# Altium integrated library Micron Memory DDR2 SDRAM.IntLib: 62 symbols (part 12 of 16)
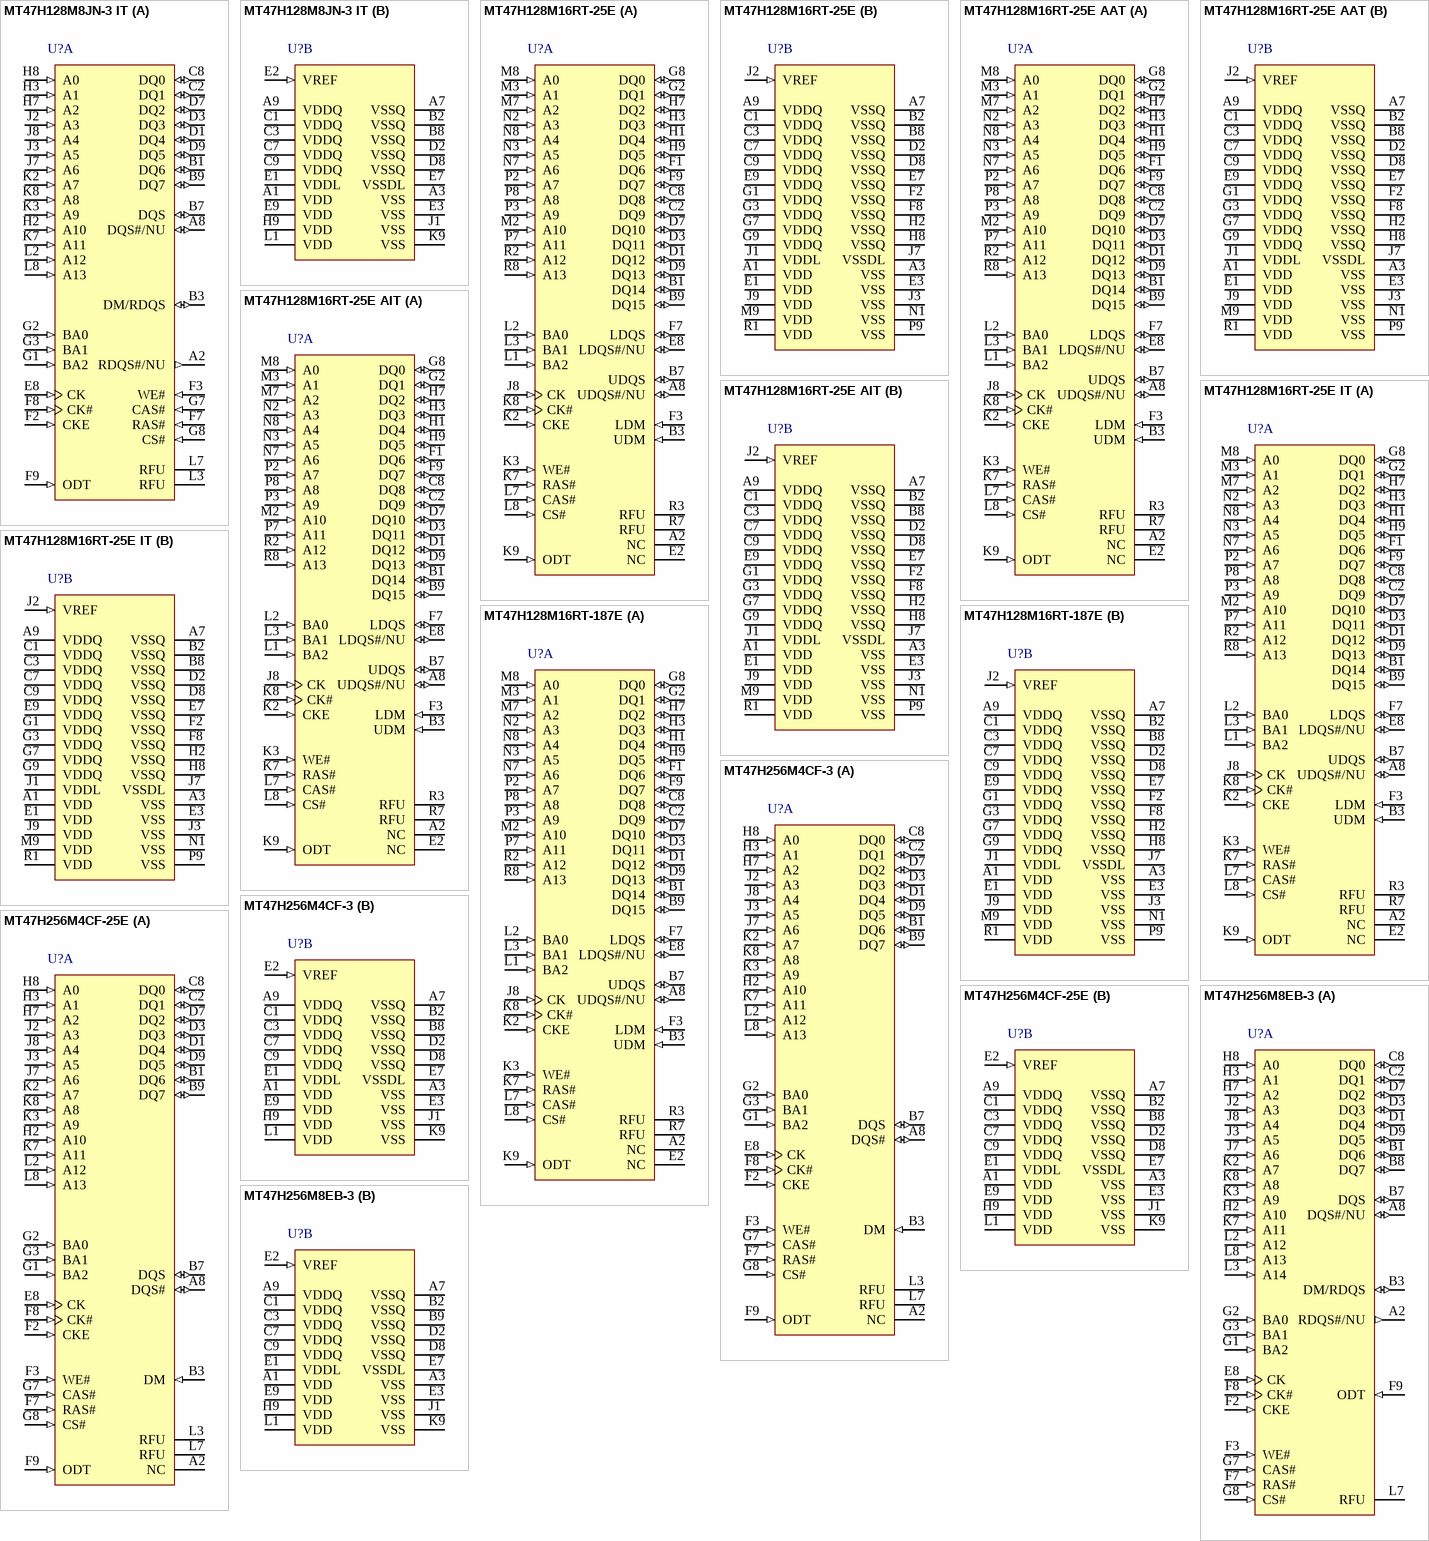
[diagram p18: symbols MT47H128M8JN-3 IT to MT47H256M8EB-3]

## MT47H128M16RT-25E
designator U?
2Gb DDR2-800 SDRAM, 128Mb x 16, 2.5ns, 1.8V, 0 to 85 degC, 84-Ball FBGA, Pb-Free; Manufacturer: Micron; PartNumber: MT47H128M16RT-25E; CL: CL = 5; Clock Rate: 400 MHz; Op. Temp.: 0C to +85C; DatasheetVersion: Rev.H; PackageVersion: Rev.C; PackageReference: MICT-RT-84; PackageDescription: 84-Ball Fine-Pitch Ball Grid Array, 12.5 x 9 mm, Pitch 0.8 mm; Cycle Time: 2.5ns; Data Rate: DDR2-800; Density: 2Gb; Depth: 128Mb; Package: FBGA; Pin Count: 84-ball; RoHS: Yes; Voltage: 1.8V; Width: x16; Mounting Technology: Surface Mount; ComponentLink1Description: Manufacturer URL; ComponentLink1URL: http://www.micron.com/; ComponentLink2Description: Datasheet; ComponentLink2URL: http://www.micron.com/~/media/Documents/Products/Data%20Sheet/DRAM/2Gb_DDR2.pdf; ComponentLink3Description: Package Specification; ComponentLink3URL: http://www.micron.com/~/media/Documents/Products/Data%20Sheet/DRAM/2Gb_DDR2.pdf
footprint MICT-RT-84 (BGA, 84-Balls, Body 12.5x9mm, Pitch 0.8mm)
part A pins: A2 NC "No connect: These balls should be left unconnected.", A8 UDQS#/NU (io) "Data strobe for upper byte: Output with read data, input with write data for source synchronous operation. Edge-aligned with read data, center-aligned with write data. UDQS# is only used when differential data strobe mode is (See Datasheet)", B1 DQ14 (io) "Data input/output: Bidirectional data bus for 128 Meg x 16.", B3 UDM (in) "Input data mask: DM is an input mask signal for write data. Input data is masked when DM is concurrently sampled HIGH during a WRITE access. DM is sampled on both edges of DQS. Although DM balls are input-only, the DM (See Datasheet)", B7 UDQS (io) "Data strobe for upper byte: Output with read data, input with write data for source synchronous operation. Edge-aligned with read data, center-aligned with write data. UDQS# is only used when differential data strobe mode is (See Datasheet)", B9 DQ15 (io) "Data input/output: Bidirectional data bus for 128 Meg x 16.", C2 DQ9 (io) "Data input/output: Bidirectional data bus for 128 Meg x 16.", C8 DQ8 (io) "Data input/output: Bidirectional data bus for 128 Meg x 16.", D1 DQ12 (io) "Data input/output: Bidirectional data bus for 128 Meg x 16.", D3 DQ11 (io) "Data input/output: Bidirectional data bus for 128 Meg x 16.", D7 DQ10 (io) "Data input/output: Bidirectional data bus for 128 Meg x 16.", D9 DQ13 (io) "Data input/output: Bidirectional data bus for 128 Meg x 16.", E2 NC "No connect: These balls should be left unconnected.", E8 LDQS#/NU (io) "Data strobe for lower byte: Output with read data, input with write data for source synchronous operation. Edge-aligned with read data, center-aligned with write data. LDQS# is only used when differential data strobe mode is (See Datasheet)", F1 DQ6 (io) "Data input/output: Bidirectional data bus for 128 Meg x 16.", F3 LDM (in) "Input data mask: DM is an input mask signal for write data. Input data is masked when DM is concurrently sampled HIGH during a WRITE access. DM is sampled on both edges of DQS. Although DM balls are input-only, the DM (See Datasheet)", F7 LDQS (io) "Data strobe for lower byte: Output with read data, input with write data for source synchronous operation. Edge-aligned with read data, center-aligned with write data. LDQS# is only used when differential data strobe mode is (See Datasheet)", F9 DQ7 (io) "Data input/output: Bidirectional data bus for 128 Meg x 16.", G2 DQ1 (io) "Data input/output: Bidirectional data bus for 128 Meg x 16.", G8 DQ0 (io) "Data input/output: Bidirectional data bus for 128 Meg x 16.", H1 DQ4 (io) "Data input/output: Bidirectional data bus for 128 Meg x 16.", H3 DQ3 (io) "Data input/output: Bidirectional data bus for 128 Meg x 16.", H7 DQ2 (io) "Data input/output: Bidirectional data bus for 128 Meg x 16.", H9 DQ5 (io) "Data input/output: Bidirectional data bus for 128 Meg x 16.", J8 CK (in) "Clock: CK and CK# are differential clock inputs. All address and control input signals are sampled on the crossing of the positive edge of CK and negative edge of CK#. Output data (DQ and DQS/DQS#) is referenced to the (See Datasheet)", K2 CKE (in) "Clock enable: CKE (registered HIGH) activates and CKE (registered LOW) deactivates clocking circuitry on the DDR2 SDRAM. The specific circuitry that is enabled/disabled is dependent on the DDR2 SDRAM configuration and (See Datasheet)", K3 WE# (in) "Command inputs: RAS#, CAS#, and WE# (along with CS#) define the command being entered.", K7 RAS# (in) "Command inputs: RAS#, CAS#, and WE# (along with CS#) define the command being entered.", K8 CK# (in) "Clock: CK and CK# are differential clock inputs. All address and control input signals are sampled on the crossing of the positive edge of CK and negative edge of CK#. Output data (DQ and DQS/DQS#) is referenced to the (See Datasheet)", K9 ODT (in) "On-die termination: ODT (registered HIGH) enables termination resistance internal to the DDR2 SDRAM. When enabled, ODT is only applied to each of the following balls: DQ[15:0], LDM, UDM, LDQS, LDQS#, UDQS, and UDQS# for the (See Datasheet)", L1 BA2 (in) "Bank address inputs: BA[2:0] define to which bank an ACTIVE, READ, WRITE, or PRECHARGE command is being applied. BA[2:0] define which mode register, including MR, EMR, EMR(2), and EMR(3), is loaded during the LOAD MODE (See Datasheet)", L2 BA0 (in) "Bank address inputs: BA[2:0] define to which bank an ACTIVE, READ, WRITE, or PRECHARGE command is being applied. BA[2:0] define which mode register, including MR, EMR, EMR(2), and EMR(3), is loaded during the LOAD MODE (See Datasheet)", L3 BA1 (in) "Bank address inputs: BA[2:0] define to which bank an ACTIVE, READ, WRITE, or PRECHARGE command is being applied. BA[2:0] define which mode register, including MR, EMR, EMR(2), and EMR(3), is loaded during the LOAD MODE (See Datasheet)", L7 CAS# (in) "Command inputs: RAS#, CAS#, and WE# (along with CS#) define the command being entered.", L8 CS# (in) "Chip select: CS# enables (registered LOW) and disables (registered HIGH) the command decoder. All commands are masked when CS# is registered high. CS# provides for external bank selection on systems with multiple ranks. CS# (See Datasheet)", M2 A10 (in) "Address inputs: Provide the row address for ACTIVE commands, and the column address and auto precharge bit (A10) for READ/WRITE commands, to select one location out of the memory array in the respective bank. A10 sampled (See Datasheet)", M3 A1 (in) "Address inputs: Provide the row address for ACTIVE commands, and the column address and auto precharge bit (A10) for READ/WRITE commands, to select one location out of the memory array in the respective bank. A10 sampled (See Datasheet)", M7 A2 (in) "Address inputs: Provide the row address for ACTIVE commands, and the column address and auto precharge bit (A10) for READ/WRITE commands, to select one location out of the memory array in the respective bank. A10 sampled (See Datasheet)", M8 A0 (in) "Address inputs: Provide the row address for ACTIVE commands, and the column address and auto precharge bit (A10) for READ/WRITE commands, to select one location out of the memory array in the respective bank. A10 sampled (See Datasheet)", N2 A3 (in) "Address inputs: Provide the row address for ACTIVE commands, and the column address and auto precharge bit (A10) for READ/WRITE commands, to select one location out of the memory array in the respective bank. A10 sampled (See Datasheet)", N3 A5 (in) "Address inputs: Provide the row address for ACTIVE commands, and the column address and auto precharge bit (A10) for READ/WRITE commands, to select one location out of the memory array in the respective bank. A10 sampled (See Datasheet)", N7 A6 (in) "Address inputs: Provide the row address for ACTIVE commands, and the column address and auto precharge bit (A10) for READ/WRITE commands, to select one location out of the memory array in the respective bank. A10 sampled (See Datasheet)", N8 A4 (in) "Address inputs: Provide the row address for ACTIVE commands, and the column address and auto precharge bit (A10) for READ/WRITE commands, to select one location out of the memory array in the respective bank. A10 sampled (See Datasheet)", P2 A7 (in) "Address inputs: Provide the row address for ACTIVE commands, and the column address and auto precharge bit (A10) for READ/WRITE commands, to select one location out of the memory array in the respective bank. A10 sampled (See Datasheet)", P3 A9 (in) "Address inputs: Provide the row address for ACTIVE commands, and the column address and auto precharge bit (A10) for READ/WRITE commands, to select one location out of the memory array in the respective bank. A10 sampled (See Datasheet)", P7 A11 (in) "Address inputs: Provide the row address for ACTIVE commands, and the column address and auto precharge bit (A10) for READ/WRITE commands, to select one location out of the memory array in the respective bank. A10 sampled (See Datasheet)", P8 A8 (in) "Address inputs: Provide the row address for ACTIVE commands, and the column address and auto precharge bit (A10) for READ/WRITE commands, to select one location out of the memory array in the respective bank. A10 sampled (See Datasheet)", R2 A12 (in) "Address inputs: Provide the row address for ACTIVE commands, and the column address and auto precharge bit (A10) for READ/WRITE commands, to select one location out of the memory array in the respective bank. A10 sampled (See Datasheet)", R3 RFU "Reserved for future use: Row address bits A14 (R3), A15 (R7) on the x16, and A15 (L7) on the x4/x8.", R7 RFU "Reserved for future use: Row address bits A14 (R3), A15 (R7) on the x16, and A15 (L7) on the x4/x8.", R8 A13 (in) "Address inputs: Provide the row address for ACTIVE commands, and the column address and auto precharge bit (A10) for READ/WRITE commands, to select one location out of the memory array in the respective bank. A10 sampled (See Datasheet)"
part B pins: A1 VDD (power) "Power supply: 1.8V +/-0.1V.", A3 VSS (power) "Ground.", A7 VSSQ (power) "DQ ground: Isolated on the device for improved noise immunity.", A9 VDDQ (power) "DQ power supply: 1.8V +/-0.1V. Isolated on the device for improved noise immunity.", B2 VSSQ (power) "DQ ground: Isolated on the device for improved noise immunity.", B8 VSSQ (power) "DQ ground: Isolated on the device for improved noise immunity.", C1 VDDQ (power) "DQ power supply: 1.8V +/-0.1V. Isolated on the device for improved noise immunity.", C3 VDDQ (power) "DQ power supply: 1.8V +/-0.1V. Isolated on the device for improved noise immunity.", C7 VDDQ (power) "DQ power supply: 1.8V +/-0.1V. Isolated on the device for improved noise immunity.", C9 VDDQ (power) "DQ power supply: 1.8V +/-0.1V. Isolated on the device for improved noise immunity.", D2 VSSQ (power) "DQ ground: Isolated on the device for improved noise immunity.", D8 VSSQ (power) "DQ ground: Isolated on the device for improved noise immunity.", E1 VDD (power) "Power supply: 1.8V +/-0.1V.", E3 VSS (power) "Ground.", E7 VSSQ (power) "DQ ground: Isolated on the device for improved noise immunity.", E9 VDDQ (power) "DQ power supply: 1.8V +/-0.1V. Isolated on the device for improved noise immunity.", F2 VSSQ (power) "DQ ground: Isolated on the device for improved noise immunity.", F8 VSSQ (power) "DQ ground: Isolated on the device for improved noise immunity.", G1 VDDQ (power) "DQ power supply: 1.8V +/-0.1V. Isolated on the device for improved noise immunity.", G3 VDDQ (power) "DQ power supply: 1.8V +/-0.1V. Isolated on the device for improved noise immunity.", G7 VDDQ (power) "DQ power supply: 1.8V +/-0.1V. Isolated on the device for improved noise immunity.", G9 VDDQ (power) "DQ power supply: 1.8V +/-0.1V. Isolated on the device for improved noise immunity.", H2 VSSQ (power) "DQ ground: Isolated on the device for improved noise immunity.", H8 VSSQ (power) "DQ ground: Isolated on the device for improved noise immunity.", J1 VDDL (power) "DLL power supply: 1.8V +/-0.1V.", J2 VREF (in) "SSTL_18 reference voltage.", J3 VSS (power) "Ground.", J7 VSSDL (power) "DLL ground: Isolated on the device from VSS and VSSQ.", J9 VDD (power) "Power supply: 1.8V +/-0.1V.", M9 VDD (power) "Power supply: 1.8V +/-0.1V.", N1 VSS (power) "Ground.", P9 VSS (power) "Ground.", R1 VDD (power) "Power supply: 1.8V +/-0.1V."

## MT47H128M16RT-25E AAT
designator U?
2Gb DDR2-800 SDRAM, 128Mb x 16, 2.5ns, 1.8V, -40 to 105 degC, 84-Ball FBGA, Pb-Free; Manufacturer: Micron; PartNumber: MT47H128M16RT-25E AAT; CL: CL = 5; Clock Rate: 400 MHz; Op. Temp.: -40C to +105C; DatasheetVersion: Rev.D; PackageVersion: Rev.C; PackageReference: MICT-RT-84; PackageDescription: 84-Ball Fine-Pitch Ball Grid Array, 12.5 x 9 mm, Pitch 0.8 mm; Cycle Time: 2.5ns; Data Rate: DDR2-800; Density: 2Gb; Depth: 128Mb; Package: FBGA; Pin Count: 84-ball; RoHS: Yes; Voltage: 1.8V; Width: x16; Mounting Technology: Surface Mount; ComponentLink1Description: Manufacturer URL; ComponentLink1URL: http://www.micron.com/; ComponentLink2Description: Datasheet; ComponentLink2URL: http://www.micron.com/~/media/Documents/Products/Data%20Sheet/DRAM/2gb_ddr2_ait_aat.pdf; ComponentLink3Description: Package Specification; ComponentLink3URL: http://www.micron.com/~/media/Documents/Products/Data%20Sheet/DRAM/2Gb_DDR2.pdf
footprint MICT-RT-84 (BGA, 84-Balls, Body 12.5x9mm, Pitch 0.8mm)
part A pins: A2 NC "No connect: These balls should be left unconnected.", A8 UDQS#/NU (io) "Data strobe for upper byte: Output with read data, input with write data for source synchronous operation. Edge-aligned with read data, center-aligned with write data. UDQS# is only used when differential data strobe mode is (See Datasheet)", B1 DQ14 (io) "Data input/output: Bidirectional data bus for 128 Meg x 16.", B3 UDM (in) "Input data mask: DM is an input mask signal for write data. Input data is masked when DM is concurrently sampled HIGH during a WRITE access. DM is sampled on both edges of DQS. Although DM balls are input-only, the DM (See Datasheet)", B7 UDQS (io) "Data strobe for upper byte: Output with read data, input with write data for source synchronous operation. Edge-aligned with read data, center-aligned with write data. UDQS# is only used when differential data strobe mode is (See Datasheet)", B9 DQ15 (io) "Data input/output: Bidirectional data bus for 128 Meg x 16.", C2 DQ9 (io) "Data input/output: Bidirectional data bus for 128 Meg x 16.", C8 DQ8 (io) "Data input/output: Bidirectional data bus for 128 Meg x 16.", D1 DQ12 (io) "Data input/output: Bidirectional data bus for 128 Meg x 16.", D3 DQ11 (io) "Data input/output: Bidirectional data bus for 128 Meg x 16.", D7 DQ10 (io) "Data input/output: Bidirectional data bus for 128 Meg x 16.", D9 DQ13 (io) "Data input/output: Bidirectional data bus for 128 Meg x 16.", E2 NC "No connect: These balls should be left unconnected.", E8 LDQS#/NU (io) "Data strobe for lower byte: Output with read data, input with write data for source synchronous operation. Edge-aligned with read data, center-aligned with write data. LDQS# is only used when differential data strobe mode is (See Datasheet)", F1 DQ6 (io) "Data input/output: Bidirectional data bus for 128 Meg x 16.", F3 LDM (in) "Input data mask: DM is an input mask signal for write data. Input data is masked when DM is concurrently sampled HIGH during a WRITE access. DM is sampled on both edges of DQS. Although DM balls are input-only, the DM (See Datasheet)", F7 LDQS (io) "Data strobe for lower byte: Output with read data, input with write data for source synchronous operation. Edge-aligned with read data, center-aligned with write data. LDQS# is only used when differential data strobe mode is (See Datasheet)", F9 DQ7 (io) "Data input/output: Bidirectional data bus for 128 Meg x 16.", G2 DQ1 (io) "Data input/output: Bidirectional data bus for 128 Meg x 16.", G8 DQ0 (io) "Data input/output: Bidirectional data bus for 128 Meg x 16.", H1 DQ4 (io) "Data input/output: Bidirectional data bus for 128 Meg x 16.", H3 DQ3 (io) "Data input/output: Bidirectional data bus for 128 Meg x 16.", H7 DQ2 (io) "Data input/output: Bidirectional data bus for 128 Meg x 16.", H9 DQ5 (io) "Data input/output: Bidirectional data bus for 128 Meg x 16.", J8 CK (in) "Clock: CK and CK# are differential clock inputs. All address and control input signals are sampled on the crossing of the positive edge of CK and negative edge of CK#. Output data (DQ and DQS/DQS#) is referenced to the (See Datasheet)", K2 CKE (in) "Clock enable: CKE (registered HIGH) activates and CKE (registered LOW) deactivates clocking circuitry on the DDR2 SDRAM. The specific circuitry that is enabled/disabled is dependent on the DDR2 SDRAM configuration and (See Datasheet)", K3 WE# (in) "Command inputs: RAS#, CAS#, and WE# (along with CS#) define the command being entered.", K7 RAS# (in) "Command inputs: RAS#, CAS#, and WE# (along with CS#) define the command being entered.", K8 CK# (in) "Clock: CK and CK# are differential clock inputs. All address and control input signals are sampled on the crossing of the positive edge of CK and negative edge of CK#. Output data (DQ and DQS/DQS#) is referenced to the (See Datasheet)", K9 ODT (in) "On-die termination: ODT (registered HIGH) enables termination resistance internal to the DDR2 SDRAM. When enabled, ODT is only applied to each of the following balls: DQ[15:0], LDM, UDM, LDQS, LDQS#, UDQS, and UDQS# for the (See Datasheet)", L1 BA2 (in) "Bank address inputs: BA[2:0] define to which bank an ACTIVE, READ, WRITE, or PRECHARGE command is being applied. BA[2:0] define which mode register, including MR, EMR, EMR(2), and EMR(3), is loaded during the LOAD MODE (See Datasheet)", L2 BA0 (in) "Bank address inputs: BA[2:0] define to which bank an ACTIVE, READ, WRITE, or PRECHARGE command is being applied. BA[2:0] define which mode register, including MR, EMR, EMR(2), and EMR(3), is loaded during the LOAD MODE (See Datasheet)", L3 BA1 (in) "Bank address inputs: BA[2:0] define to which bank an ACTIVE, READ, WRITE, or PRECHARGE command is being applied. BA[2:0] define which mode register, including MR, EMR, EMR(2), and EMR(3), is loaded during the LOAD MODE (See Datasheet)", L7 CAS# (in) "Command inputs: RAS#, CAS#, and WE# (along with CS#) define the command being entered.", L8 CS# (in) "Chip select: CS# enables (registered LOW) and disables (registered HIGH) the command decoder. All commands are masked when CS# is registered high. CS# provides for external bank selection on systems with multiple ranks. CS# (See Datasheet)", M2 A10 (in) "Address inputs: Provide the row address for ACTIVE commands, and the column address and auto precharge bit (A10) for READ/WRITE commands, to select one location out of the memory array in the respective bank. A10 sampled (See Datasheet)", M3 A1 (in) "Address inputs: Provide the row address for ACTIVE commands, and the column address and auto precharge bit (A10) for READ/WRITE commands, to select one location out of the memory array in the respective bank. A10 sampled (See Datasheet)", M7 A2 (in) "Address inputs: Provide the row address for ACTIVE commands, and the column address and auto precharge bit (A10) for READ/WRITE commands, to select one location out of the memory array in the respective bank. A10 sampled (See Datasheet)", M8 A0 (in) "Address inputs: Provide the row address for ACTIVE commands, and the column address and auto precharge bit (A10) for READ/WRITE commands, to select one location out of the memory array in the respective bank. A10 sampled (See Datasheet)", N2 A3 (in) "Address inputs: Provide the row address for ACTIVE commands, and the column address and auto precharge bit (A10) for READ/WRITE commands, to select one location out of the memory array in the respective bank. A10 sampled (See Datasheet)", N3 A5 (in) "Address inputs: Provide the row address for ACTIVE commands, and the column address and auto precharge bit (A10) for READ/WRITE commands, to select one location out of the memory array in the respective bank. A10 sampled (See Datasheet)", N7 A6 (in) "Address inputs: Provide the row address for ACTIVE commands, and the column address and auto precharge bit (A10) for READ/WRITE commands, to select one location out of the memory array in the respective bank. A10 sampled (See Datasheet)", N8 A4 (in) "Address inputs: Provide the row address for ACTIVE commands, and the column address and auto precharge bit (A10) for READ/WRITE commands, to select one location out of the memory array in the respective bank. A10 sampled (See Datasheet)", P2 A7 (in) "Address inputs: Provide the row address for ACTIVE commands, and the column address and auto precharge bit (A10) for READ/WRITE commands, to select one location out of the memory array in the respective bank. A10 sampled (See Datasheet)", P3 A9 (in) "Address inputs: Provide the row address for ACTIVE commands, and the column address and auto precharge bit (A10) for READ/WRITE commands, to select one location out of the memory array in the respective bank. A10 sampled (See Datasheet)", P7 A11 (in) "Address inputs: Provide the row address for ACTIVE commands, and the column address and auto precharge bit (A10) for READ/WRITE commands, to select one location out of the memory array in the respective bank. A10 sampled (See Datasheet)", P8 A8 (in) "Address inputs: Provide the row address for ACTIVE commands, and the column address and auto precharge bit (A10) for READ/WRITE commands, to select one location out of the memory array in the respective bank. A10 sampled (See Datasheet)", R2 A12 (in) "Address inputs: Provide the row address for ACTIVE commands, and the column address and auto precharge bit (A10) for READ/WRITE commands, to select one location out of the memory array in the respective bank. A10 sampled (See Datasheet)", R3 RFU "Reserved for future use: Row address bits A14 (R3), A15 (R7) on the x16, and A15 (L7) on the x4/x8.", R7 RFU "Reserved for future use: Row address bits A14 (R3), A15 (R7) on the x16, and A15 (L7) on the x4/x8.", R8 A13 (in) "Address inputs: Provide the row address for ACTIVE commands, and the column address and auto precharge bit (A10) for READ/WRITE commands, to select one location out of the memory array in the respective bank. A10 sampled (See Datasheet)"
part B pins: A1 VDD (power) "Power supply: 1.8V +/-0.1V.", A3 VSS (power) "Ground.", A7 VSSQ (power) "DQ ground: Isolated on the device for improved noise immunity.", A9 VDDQ (power) "DQ power supply: 1.8V +/-0.1V. Isolated on the device for improved noise immunity.", B2 VSSQ (power) "DQ ground: Isolated on the device for improved noise immunity.", B8 VSSQ (power) "DQ ground: Isolated on the device for improved noise immunity.", C1 VDDQ (power) "DQ power supply: 1.8V +/-0.1V. Isolated on the device for improved noise immunity.", C3 VDDQ (power) "DQ power supply: 1.8V +/-0.1V. Isolated on the device for improved noise immunity.", C7 VDDQ (power) "DQ power supply: 1.8V +/-0.1V. Isolated on the device for improved noise immunity.", C9 VDDQ (power) "DQ power supply: 1.8V +/-0.1V. Isolated on the device for improved noise immunity.", D2 VSSQ (power) "DQ ground: Isolated on the device for improved noise immunity.", D8 VSSQ (power) "DQ ground: Isolated on the device for improved noise immunity.", E1 VDD (power) "Power supply: 1.8V +/-0.1V.", E3 VSS (power) "Ground.", E7 VSSQ (power) "DQ ground: Isolated on the device for improved noise immunity.", E9 VDDQ (power) "DQ power supply: 1.8V +/-0.1V. Isolated on the device for improved noise immunity.", F2 VSSQ (power) "DQ ground: Isolated on the device for improved noise immunity.", F8 VSSQ (power) "DQ ground: Isolated on the device for improved noise immunity.", G1 VDDQ (power) "DQ power supply: 1.8V +/-0.1V. Isolated on the device for improved noise immunity.", G3 VDDQ (power) "DQ power supply: 1.8V +/-0.1V. Isolated on the device for improved noise immunity.", G7 VDDQ (power) "DQ power supply: 1.8V +/-0.1V. Isolated on the device for improved noise immunity.", G9 VDDQ (power) "DQ power supply: 1.8V +/-0.1V. Isolated on the device for improved noise immunity.", H2 VSSQ (power) "DQ ground: Isolated on the device for improved noise immunity.", H8 VSSQ (power) "DQ ground: Isolated on the device for improved noise immunity.", J1 VDDL (power) "DLL power supply: 1.8V +/-0.1V.", J2 VREF (in) "SSTL_18 reference voltage.", J3 VSS (power) "Ground.", J7 VSSDL (power) "DLL ground: Isolated on the device from VSS and VSSQ.", J9 VDD (power) "Power supply: 1.8V +/-0.1V.", M9 VDD (power) "Power supply: 1.8V +/-0.1V.", N1 VSS (power) "Ground.", P9 VSS (power) "Ground.", R1 VDD (power) "Power supply: 1.8V +/-0.1V."

## MT47H128M16RT-25E AIT
designator U?
2Gb DDR2-800 SDRAM, 128Mb x 16, 2.5ns, 1.8V, -40 to 95 degC, 84-Ball FBGA, Pb-Free; Manufacturer: Micron; PartNumber: MT47H128M16RT-25E AIT; CL: CL = 5; Clock Rate: 400 MHz; Op. Temp.: -40C to +95C; DatasheetVersion: Rev.D; PackageVersion: Rev.C; PackageReference: MICT-RT-84; PackageDescription: 84-Ball Fine-Pitch Ball Grid Array, 12.5 x 9 mm, Pitch 0.8 mm; Cycle Time: 2.5ns; Data Rate: DDR2-800; Density: 2Gb; Depth: 128Mb; Package: FBGA; Pin Count: 84-ball; RoHS: Yes; Voltage: 1.8V; Width: x16; Mounting Technology: Surface Mount; ComponentLink1Description: Manufacturer URL; ComponentLink1URL: http://www.micron.com/; ComponentLink2Description: Datasheet; ComponentLink2URL: http://www.micron.com/~/media/Documents/Products/Data%20Sheet/DRAM/2gb_ddr2_ait_aat.pdf; ComponentLink3Description: Package Specification; ComponentLink3URL: http://www.micron.com/~/media/Documents/Products/Data%20Sheet/DRAM/2Gb_DDR2.pdf
footprint MICT-RT-84 (BGA, 84-Balls, Body 12.5x9mm, Pitch 0.8mm)
part A pins: A2 NC "No connect: These balls should be left unconnected.", A8 UDQS#/NU (io) "Data strobe for upper byte: Output with read data, input with write data for source synchronous operation. Edge-aligned with read data, center-aligned with write data. UDQS# is only used when differential data strobe mode is (See Datasheet)", B1 DQ14 (io) "Data input/output: Bidirectional data bus for 128 Meg x 16.", B3 UDM (in) "Input data mask: DM is an input mask signal for write data. Input data is masked when DM is concurrently sampled HIGH during a WRITE access. DM is sampled on both edges of DQS. Although DM balls are input-only, the DM (See Datasheet)", B7 UDQS (io) "Data strobe for upper byte: Output with read data, input with write data for source synchronous operation. Edge-aligned with read data, center-aligned with write data. UDQS# is only used when differential data strobe mode is (See Datasheet)", B9 DQ15 (io) "Data input/output: Bidirectional data bus for 128 Meg x 16.", C2 DQ9 (io) "Data input/output: Bidirectional data bus for 128 Meg x 16.", C8 DQ8 (io) "Data input/output: Bidirectional data bus for 128 Meg x 16.", D1 DQ12 (io) "Data input/output: Bidirectional data bus for 128 Meg x 16.", D3 DQ11 (io) "Data input/output: Bidirectional data bus for 128 Meg x 16.", D7 DQ10 (io) "Data input/output: Bidirectional data bus for 128 Meg x 16.", D9 DQ13 (io) "Data input/output: Bidirectional data bus for 128 Meg x 16.", E2 NC "No connect: These balls should be left unconnected.", E8 LDQS#/NU (io) "Data strobe for lower byte: Output with read data, input with write data for source synchronous operation. Edge-aligned with read data, center-aligned with write data. LDQS# is only used when differential data strobe mode is (See Datasheet)", F1 DQ6 (io) "Data input/output: Bidirectional data bus for 128 Meg x 16.", F3 LDM (in) "Input data mask: DM is an input mask signal for write data. Input data is masked when DM is concurrently sampled HIGH during a WRITE access. DM is sampled on both edges of DQS. Although DM balls are input-only, the DM (See Datasheet)", F7 LDQS (io) "Data strobe for lower byte: Output with read data, input with write data for source synchronous operation. Edge-aligned with read data, center-aligned with write data. LDQS# is only used when differential data strobe mode is (See Datasheet)", F9 DQ7 (io) "Data input/output: Bidirectional data bus for 128 Meg x 16.", G2 DQ1 (io) "Data input/output: Bidirectional data bus for 128 Meg x 16.", G8 DQ0 (io) "Data input/output: Bidirectional data bus for 128 Meg x 16.", H1 DQ4 (io) "Data input/output: Bidirectional data bus for 128 Meg x 16.", H3 DQ3 (io) "Data input/output: Bidirectional data bus for 128 Meg x 16.", H7 DQ2 (io) "Data input/output: Bidirectional data bus for 128 Meg x 16.", H9 DQ5 (io) "Data input/output: Bidirectional data bus for 128 Meg x 16.", J8 CK (in) "Clock: CK and CK# are differential clock inputs. All address and control input signals are sampled on the crossing of the positive edge of CK and negative edge of CK#. Output data (DQ and DQS/DQS#) is referenced to the (See Datasheet)", K2 CKE (in) "Clock enable: CKE (registered HIGH) activates and CKE (registered LOW) deactivates clocking circuitry on the DDR2 SDRAM. The specific circuitry that is enabled/disabled is dependent on the DDR2 SDRAM configuration and (See Datasheet)", K3 WE# (in) "Command inputs: RAS#, CAS#, and WE# (along with CS#) define the command being entered.", K7 RAS# (in) "Command inputs: RAS#, CAS#, and WE# (along with CS#) define the command being entered.", K8 CK# (in) "Clock: CK and CK# are differential clock inputs. All address and control input signals are sampled on the crossing of the positive edge of CK and negative edge of CK#. Output data (DQ and DQS/DQS#) is referenced to the (See Datasheet)", K9 ODT (in) "On-die termination: ODT (registered HIGH) enables termination resistance internal to the DDR2 SDRAM. When enabled, ODT is only applied to each of the following balls: DQ[15:0], LDM, UDM, LDQS, LDQS#, UDQS, and UDQS# for the (See Datasheet)", L1 BA2 (in) "Bank address inputs: BA[2:0] define to which bank an ACTIVE, READ, WRITE, or PRECHARGE command is being applied. BA[2:0] define which mode register, including MR, EMR, EMR(2), and EMR(3), is loaded during the LOAD MODE (See Datasheet)", L2 BA0 (in) "Bank address inputs: BA[2:0] define to which bank an ACTIVE, READ, WRITE, or PRECHARGE command is being applied. BA[2:0] define which mode register, including MR, EMR, EMR(2), and EMR(3), is loaded during the LOAD MODE (See Datasheet)", L3 BA1 (in) "Bank address inputs: BA[2:0] define to which bank an ACTIVE, READ, WRITE, or PRECHARGE command is being applied. BA[2:0] define which mode register, including MR, EMR, EMR(2), and EMR(3), is loaded during the LOAD MODE (See Datasheet)", L7 CAS# (in) "Command inputs: RAS#, CAS#, and WE# (along with CS#) define the command being entered.", L8 CS# (in) "Chip select: CS# enables (registered LOW) and disables (registered HIGH) the command decoder. All commands are masked when CS# is registered high. CS# provides for external bank selection on systems with multiple ranks. CS# (See Datasheet)", M2 A10 (in) "Address inputs: Provide the row address for ACTIVE commands, and the column address and auto precharge bit (A10) for READ/WRITE commands, to select one location out of the memory array in the respective bank. A10 sampled (See Datasheet)", M3 A1 (in) "Address inputs: Provide the row address for ACTIVE commands, and the column address and auto precharge bit (A10) for READ/WRITE commands, to select one location out of the memory array in the respective bank. A10 sampled (See Datasheet)", M7 A2 (in) "Address inputs: Provide the row address for ACTIVE commands, and the column address and auto precharge bit (A10) for READ/WRITE commands, to select one location out of the memory array in the respective bank. A10 sampled (See Datasheet)", M8 A0 (in) "Address inputs: Provide the row address for ACTIVE commands, and the column address and auto precharge bit (A10) for READ/WRITE commands, to select one location out of the memory array in the respective bank. A10 sampled (See Datasheet)", N2 A3 (in) "Address inputs: Provide the row address for ACTIVE commands, and the column address and auto precharge bit (A10) for READ/WRITE commands, to select one location out of the memory array in the respective bank. A10 sampled (See Datasheet)", N3 A5 (in) "Address inputs: Provide the row address for ACTIVE commands, and the column address and auto precharge bit (A10) for READ/WRITE commands, to select one location out of the memory array in the respective bank. A10 sampled (See Datasheet)", N7 A6 (in) "Address inputs: Provide the row address for ACTIVE commands, and the column address and auto precharge bit (A10) for READ/WRITE commands, to select one location out of the memory array in the respective bank. A10 sampled (See Datasheet)", N8 A4 (in) "Address inputs: Provide the row address for ACTIVE commands, and the column address and auto precharge bit (A10) for READ/WRITE commands, to select one location out of the memory array in the respective bank. A10 sampled (See Datasheet)", P2 A7 (in) "Address inputs: Provide the row address for ACTIVE commands, and the column address and auto precharge bit (A10) for READ/WRITE commands, to select one location out of the memory array in the respective bank. A10 sampled (See Datasheet)", P3 A9 (in) "Address inputs: Provide the row address for ACTIVE commands, and the column address and auto precharge bit (A10) for READ/WRITE commands, to select one location out of the memory array in the respective bank. A10 sampled (See Datasheet)", P7 A11 (in) "Address inputs: Provide the row address for ACTIVE commands, and the column address and auto precharge bit (A10) for READ/WRITE commands, to select one location out of the memory array in the respective bank. A10 sampled (See Datasheet)", P8 A8 (in) "Address inputs: Provide the row address for ACTIVE commands, and the column address and auto precharge bit (A10) for READ/WRITE commands, to select one location out of the memory array in the respective bank. A10 sampled (See Datasheet)", R2 A12 (in) "Address inputs: Provide the row address for ACTIVE commands, and the column address and auto precharge bit (A10) for READ/WRITE commands, to select one location out of the memory array in the respective bank. A10 sampled (See Datasheet)", R3 RFU "Reserved for future use: Row address bits A14 (R3), A15 (R7) on the x16, and A15 (L7) on the x4/x8.", R7 RFU "Reserved for future use: Row address bits A14 (R3), A15 (R7) on the x16, and A15 (L7) on the x4/x8.", R8 A13 (in) "Address inputs: Provide the row address for ACTIVE commands, and the column address and auto precharge bit (A10) for READ/WRITE commands, to select one location out of the memory array in the respective bank. A10 sampled (See Datasheet)"
part B pins: A1 VDD (power) "Power supply: 1.8V +/-0.1V.", A3 VSS (power) "Ground.", A7 VSSQ (power) "DQ ground: Isolated on the device for improved noise immunity.", A9 VDDQ (power) "DQ power supply: 1.8V +/-0.1V. Isolated on the device for improved noise immunity.", B2 VSSQ (power) "DQ ground: Isolated on the device for improved noise immunity.", B8 VSSQ (power) "DQ ground: Isolated on the device for improved noise immunity.", C1 VDDQ (power) "DQ power supply: 1.8V +/-0.1V. Isolated on the device for improved noise immunity.", C3 VDDQ (power) "DQ power supply: 1.8V +/-0.1V. Isolated on the device for improved noise immunity.", C7 VDDQ (power) "DQ power supply: 1.8V +/-0.1V. Isolated on the device for improved noise immunity.", C9 VDDQ (power) "DQ power supply: 1.8V +/-0.1V. Isolated on the device for improved noise immunity.", D2 VSSQ (power) "DQ ground: Isolated on the device for improved noise immunity.", D8 VSSQ (power) "DQ ground: Isolated on the device for improved noise immunity.", E1 VDD (power) "Power supply: 1.8V +/-0.1V.", E3 VSS (power) "Ground.", E7 VSSQ (power) "DQ ground: Isolated on the device for improved noise immunity.", E9 VDDQ (power) "DQ power supply: 1.8V +/-0.1V. Isolated on the device for improved noise immunity.", F2 VSSQ (power) "DQ ground: Isolated on the device for improved noise immunity.", F8 VSSQ (power) "DQ ground: Isolated on the device for improved noise immunity.", G1 VDDQ (power) "DQ power supply: 1.8V +/-0.1V. Isolated on the device for improved noise immunity.", G3 VDDQ (power) "DQ power supply: 1.8V +/-0.1V. Isolated on the device for improved noise immunity.", G7 VDDQ (power) "DQ power supply: 1.8V +/-0.1V. Isolated on the device for improved noise immunity.", G9 VDDQ (power) "DQ power supply: 1.8V +/-0.1V. Isolated on the device for improved noise immunity.", H2 VSSQ (power) "DQ ground: Isolated on the device for improved noise immunity.", H8 VSSQ (power) "DQ ground: Isolated on the device for improved noise immunity.", J1 VDDL (power) "DLL power supply: 1.8V +/-0.1V.", J2 VREF (in) "SSTL_18 reference voltage.", J3 VSS (power) "Ground.", J7 VSSDL (power) "DLL ground: Isolated on the device from VSS and VSSQ.", J9 VDD (power) "Power supply: 1.8V +/-0.1V.", M9 VDD (power) "Power supply: 1.8V +/-0.1V.", N1 VSS (power) "Ground.", P9 VSS (power) "Ground.", R1 VDD (power) "Power supply: 1.8V +/-0.1V."

## MT47H128M16RT-25E IT
designator U?
2Gb DDR2-800 SDRAM, 128Mb x 16, 2.5ns, 1.8V, -40 to 95 degC, 84-Ball FBGA, Pb-Free; Manufacturer: Micron; PartNumber: MT47H128M16RT-25E IT; CL: CL = 5; Clock Rate: 400 MHz; Op. Temp.: -40C to +95C; DatasheetVersion: Rev.H; PackageVersion: Rev.C; PackageReference: MICT-RT-84; PackageDescription: 84-Ball Fine-Pitch Ball Grid Array, 12.5 x 9 mm, Pitch 0.8 mm; Cycle Time: 2.5ns; Data Rate: DDR2-800; Density: 2Gb; Depth: 128Mb; Package: FBGA; Pin Count: 84-ball; RoHS: Yes; Voltage: 1.8V; Width: x16; Mounting Technology: Surface Mount; ComponentLink1Description: Manufacturer URL; ComponentLink1URL: http://www.micron.com/; ComponentLink2Description: Datasheet; ComponentLink2URL: http://www.micron.com/~/media/Documents/Products/Data%20Sheet/DRAM/2Gb_DDR2.pdf; ComponentLink3Description: Package Specification; ComponentLink3URL: http://www.micron.com/~/media/Documents/Products/Data%20Sheet/DRAM/2Gb_DDR2.pdf
footprint MICT-RT-84 (BGA, 84-Balls, Body 12.5x9mm, Pitch 0.8mm)
part A pins: A2 NC "No connect: These balls should be left unconnected.", A8 UDQS#/NU (io) "Data strobe for upper byte: Output with read data, input with write data for source synchronous operation. Edge-aligned with read data, center-aligned with write data. UDQS# is only used when differential data strobe mode is (See Datasheet)", B1 DQ14 (io) "Data input/output: Bidirectional data bus for 128 Meg x 16.", B3 UDM (in) "Input data mask: DM is an input mask signal for write data. Input data is masked when DM is concurrently sampled HIGH during a WRITE access. DM is sampled on both edges of DQS. Although DM balls are input-only, the DM (See Datasheet)", B7 UDQS (io) "Data strobe for upper byte: Output with read data, input with write data for source synchronous operation. Edge-aligned with read data, center-aligned with write data. UDQS# is only used when differential data strobe mode is (See Datasheet)", B9 DQ15 (io) "Data input/output: Bidirectional data bus for 128 Meg x 16.", C2 DQ9 (io) "Data input/output: Bidirectional data bus for 128 Meg x 16.", C8 DQ8 (io) "Data input/output: Bidirectional data bus for 128 Meg x 16.", D1 DQ12 (io) "Data input/output: Bidirectional data bus for 128 Meg x 16.", D3 DQ11 (io) "Data input/output: Bidirectional data bus for 128 Meg x 16.", D7 DQ10 (io) "Data input/output: Bidirectional data bus for 128 Meg x 16.", D9 DQ13 (io) "Data input/output: Bidirectional data bus for 128 Meg x 16.", E2 NC "No connect: These balls should be left unconnected.", E8 LDQS#/NU (io) "Data strobe for lower byte: Output with read data, input with write data for source synchronous operation. Edge-aligned with read data, center-aligned with write data. LDQS# is only used when differential data strobe mode is (See Datasheet)", F1 DQ6 (io) "Data input/output: Bidirectional data bus for 128 Meg x 16.", F3 LDM (in) "Input data mask: DM is an input mask signal for write data. Input data is masked when DM is concurrently sampled HIGH during a WRITE access. DM is sampled on both edges of DQS. Although DM balls are input-only, the DM (See Datasheet)", F7 LDQS (io) "Data strobe for lower byte: Output with read data, input with write data for source synchronous operation. Edge-aligned with read data, center-aligned with write data. LDQS# is only used when differential data strobe mode is (See Datasheet)", F9 DQ7 (io) "Data input/output: Bidirectional data bus for 128 Meg x 16.", G2 DQ1 (io) "Data input/output: Bidirectional data bus for 128 Meg x 16.", G8 DQ0 (io) "Data input/output: Bidirectional data bus for 128 Meg x 16.", H1 DQ4 (io) "Data input/output: Bidirectional data bus for 128 Meg x 16.", H3 DQ3 (io) "Data input/output: Bidirectional data bus for 128 Meg x 16.", H7 DQ2 (io) "Data input/output: Bidirectional data bus for 128 Meg x 16.", H9 DQ5 (io) "Data input/output: Bidirectional data bus for 128 Meg x 16.", J8 CK (in) "Clock: CK and CK# are differential clock inputs. All address and control input signals are sampled on the crossing of the positive edge of CK and negative edge of CK#. Output data (DQ and DQS/DQS#) is referenced to the (See Datasheet)", K2 CKE (in) "Clock enable: CKE (registered HIGH) activates and CKE (registered LOW) deactivates clocking circuitry on the DDR2 SDRAM. The specific circuitry that is enabled/disabled is dependent on the DDR2 SDRAM configuration and (See Datasheet)", K3 WE# (in) "Command inputs: RAS#, CAS#, and WE# (along with CS#) define the command being entered.", K7 RAS# (in) "Command inputs: RAS#, CAS#, and WE# (along with CS#) define the command being entered.", K8 CK# (in) "Clock: CK and CK# are differential clock inputs. All address and control input signals are sampled on the crossing of the positive edge of CK and negative edge of CK#. Output data (DQ and DQS/DQS#) is referenced to the (See Datasheet)", K9 ODT (in) "On-die termination: ODT (registered HIGH) enables termination resistance internal to the DDR2 SDRAM. When enabled, ODT is only applied to each of the following balls: DQ[15:0], LDM, UDM, LDQS, LDQS#, UDQS, and UDQS# for the (See Datasheet)", L1 BA2 (in) "Bank address inputs: BA[2:0] define to which bank an ACTIVE, READ, WRITE, or PRECHARGE command is being applied. BA[2:0] define which mode register, including MR, EMR, EMR(2), and EMR(3), is loaded during the LOAD MODE (See Datasheet)", L2 BA0 (in) "Bank address inputs: BA[2:0] define to which bank an ACTIVE, READ, WRITE, or PRECHARGE command is being applied. BA[2:0] define which mode register, including MR, EMR, EMR(2), and EMR(3), is loaded during the LOAD MODE (See Datasheet)", L3 BA1 (in) "Bank address inputs: BA[2:0] define to which bank an ACTIVE, READ, WRITE, or PRECHARGE command is being applied. BA[2:0] define which mode register, including MR, EMR, EMR(2), and EMR(3), is loaded during the LOAD MODE (See Datasheet)", L7 CAS# (in) "Command inputs: RAS#, CAS#, and WE# (along with CS#) define the command being entered.", L8 CS# (in) "Chip select: CS# enables (registered LOW) and disables (registered HIGH) the command decoder. All commands are masked when CS# is registered high. CS# provides for external bank selection on systems with multiple ranks. CS# (See Datasheet)", M2 A10 (in) "Address inputs: Provide the row address for ACTIVE commands, and the column address and auto precharge bit (A10) for READ/WRITE commands, to select one location out of the memory array in the respective bank. A10 sampled (See Datasheet)", M3 A1 (in) "Address inputs: Provide the row address for ACTIVE commands, and the column address and auto precharge bit (A10) for READ/WRITE commands, to select one location out of the memory array in the respective bank. A10 sampled (See Datasheet)", M7 A2 (in) "Address inputs: Provide the row address for ACTIVE commands, and the column address and auto precharge bit (A10) for READ/WRITE commands, to select one location out of the memory array in the respective bank. A10 sampled (See Datasheet)", M8 A0 (in) "Address inputs: Provide the row address for ACTIVE commands, and the column address and auto precharge bit (A10) for READ/WRITE commands, to select one location out of the memory array in the respective bank. A10 sampled (See Datasheet)", N2 A3 (in) "Address inputs: Provide the row address for ACTIVE commands, and the column address and auto precharge bit (A10) for READ/WRITE commands, to select one location out of the memory array in the respective bank. A10 sampled (See Datasheet)", N3 A5 (in) "Address inputs: Provide the row address for ACTIVE commands, and the column address and auto precharge bit (A10) for READ/WRITE commands, to select one location out of the memory array in the respective bank. A10 sampled (See Datasheet)", N7 A6 (in) "Address inputs: Provide the row address for ACTIVE commands, and the column address and auto precharge bit (A10) for READ/WRITE commands, to select one location out of the memory array in the respective bank. A10 sampled (See Datasheet)", N8 A4 (in) "Address inputs: Provide the row address for ACTIVE commands, and the column address and auto precharge bit (A10) for READ/WRITE commands, to select one location out of the memory array in the respective bank. A10 sampled (See Datasheet)", P2 A7 (in) "Address inputs: Provide the row address for ACTIVE commands, and the column address and auto precharge bit (A10) for READ/WRITE commands, to select one location out of the memory array in the respective bank. A10 sampled (See Datasheet)", P3 A9 (in) "Address inputs: Provide the row address for ACTIVE commands, and the column address and auto precharge bit (A10) for READ/WRITE commands, to select one location out of the memory array in the respective bank. A10 sampled (See Datasheet)", P7 A11 (in) "Address inputs: Provide the row address for ACTIVE commands, and the column address and auto precharge bit (A10) for READ/WRITE commands, to select one location out of the memory array in the respective bank. A10 sampled (See Datasheet)", P8 A8 (in) "Address inputs: Provide the row address for ACTIVE commands, and the column address and auto precharge bit (A10) for READ/WRITE commands, to select one location out of the memory array in the respective bank. A10 sampled (See Datasheet)", R2 A12 (in) "Address inputs: Provide the row address for ACTIVE commands, and the column address and auto precharge bit (A10) for READ/WRITE commands, to select one location out of the memory array in the respective bank. A10 sampled (See Datasheet)", R3 RFU "Reserved for future use: Row address bits A14 (R3), A15 (R7) on the x16, and A15 (L7) on the x4/x8.", R7 RFU "Reserved for future use: Row address bits A14 (R3), A15 (R7) on the x16, and A15 (L7) on the x4/x8.", R8 A13 (in) "Address inputs: Provide the row address for ACTIVE commands, and the column address and auto precharge bit (A10) for READ/WRITE commands, to select one location out of the memory array in the respective bank. A10 sampled (See Datasheet)"
part B pins: A1 VDD (power) "Power supply: 1.8V +/-0.1V.", A3 VSS (power) "Ground.", A7 VSSQ (power) "DQ ground: Isolated on the device for improved noise immunity.", A9 VDDQ (power) "DQ power supply: 1.8V +/-0.1V. Isolated on the device for improved noise immunity.", B2 VSSQ (power) "DQ ground: Isolated on the device for improved noise immunity.", B8 VSSQ (power) "DQ ground: Isolated on the device for improved noise immunity.", C1 VDDQ (power) "DQ power supply: 1.8V +/-0.1V. Isolated on the device for improved noise immunity.", C3 VDDQ (power) "DQ power supply: 1.8V +/-0.1V. Isolated on the device for improved noise immunity.", C7 VDDQ (power) "DQ power supply: 1.8V +/-0.1V. Isolated on the device for improved noise immunity.", C9 VDDQ (power) "DQ power supply: 1.8V +/-0.1V. Isolated on the device for improved noise immunity.", D2 VSSQ (power) "DQ ground: Isolated on the device for improved noise immunity.", D8 VSSQ (power) "DQ ground: Isolated on the device for improved noise immunity.", E1 VDD (power) "Power supply: 1.8V +/-0.1V.", E3 VSS (power) "Ground.", E7 VSSQ (power) "DQ ground: Isolated on the device for improved noise immunity.", E9 VDDQ (power) "DQ power supply: 1.8V +/-0.1V. Isolated on the device for improved noise immunity.", F2 VSSQ (power) "DQ ground: Isolated on the device for improved noise immunity.", F8 VSSQ (power) "DQ ground: Isolated on the device for improved noise immunity.", G1 VDDQ (power) "DQ power supply: 1.8V +/-0.1V. Isolated on the device for improved noise immunity.", G3 VDDQ (power) "DQ power supply: 1.8V +/-0.1V. Isolated on the device for improved noise immunity.", G7 VDDQ (power) "DQ power supply: 1.8V +/-0.1V. Isolated on the device for improved noise immunity.", G9 VDDQ (power) "DQ power supply: 1.8V +/-0.1V. Isolated on the device for improved noise immunity.", H2 VSSQ (power) "DQ ground: Isolated on the device for improved noise immunity.", H8 VSSQ (power) "DQ ground: Isolated on the device for improved noise immunity.", J1 VDDL (power) "DLL power supply: 1.8V +/-0.1V.", J2 VREF (in) "SSTL_18 reference voltage.", J3 VSS (power) "Ground.", J7 VSSDL (power) "DLL ground: Isolated on the device from VSS and VSSQ.", J9 VDD (power) "Power supply: 1.8V +/-0.1V.", M9 VDD (power) "Power supply: 1.8V +/-0.1V.", N1 VSS (power) "Ground.", P9 VSS (power) "Ground.", R1 VDD (power) "Power supply: 1.8V +/-0.1V."